# EAGLE library part X__STECKERLEISTE_6 (library ++Bedrahtet)
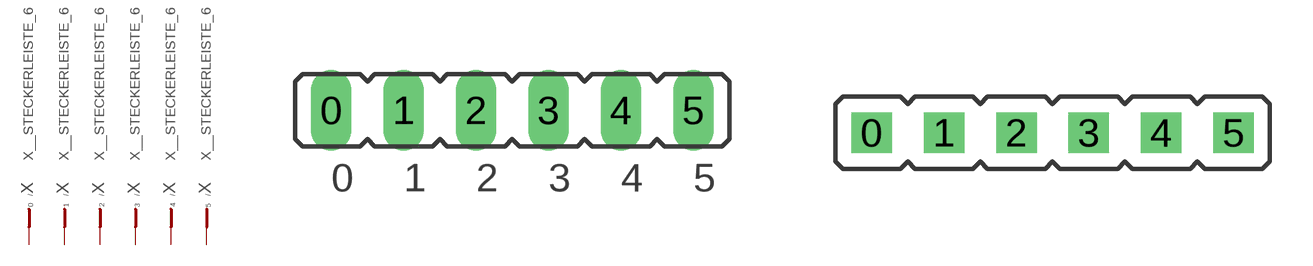
[diagram p4: symbol with the pads of STECKERLEISTE_6; footprints STECKERLEISTE_6, STECKL_6]

Designator prefix X; gates 0=STIFTPIN 1=STIFTPIN 2=STIFTPIN 3=STIFTPIN 4=STIFTPIN 5=STIFTPIN

## X__STECKERLEISTE_6  [STECKERLEISTE_6]
0  0:P
1  1:P
2  2:P
3  3:P
4  4:P
5  5:P

## X__STECKERLEISTE_6SQ  [STECKL_6]
Pads as for STECKERLEISTE_6

## Footprint STECKERLEISTE_6 (pad centres in mm)
drill 0.914 long: 0 0,0; 1 2.54,0; 2 5.08,0; 3 7.62,0; 4 10.16,0; 5 12.7,0

## Footprint STECKL_6 (pad centres in mm)
drill 0.914 square: 0 0,0; 1 2.54,0; 2 5.08,0; 3 7.62,0; 4 10.16,0; 5 12.7,0